# EAGLE library part DRV8847PWPR (library PDUv2)
None Check prices <https://pricing.snapeda.com/parts/DRV8847PWPR/Texas%20Instruments/view-part?ref=eda>
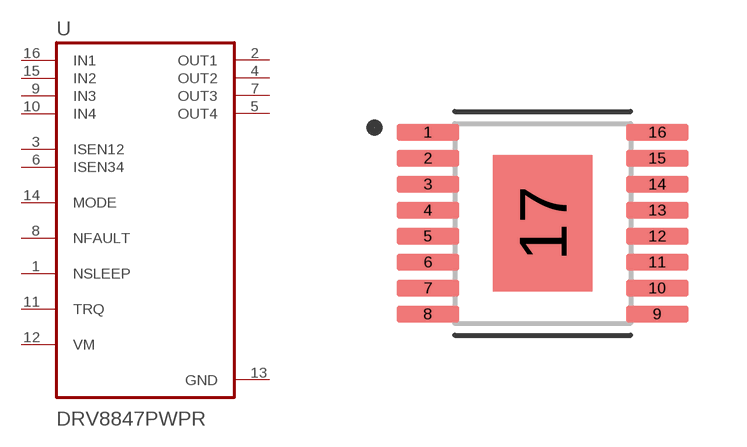
[diagram p3: symbol with the pads of SOP65P640X120-17N; footprint SOP65P640X120-17N]

Designator prefix U

## DRV8847PWPR (AVAILABILITY: Warning; DESCRIPTION: 18-V, 2-A dual H-bridge motor driver with current regulation & independent half-bridge control 16-HTSSOP -40 to 125; MF: Texas Instruments; MP: DRV8847PWPR; PACKAGE: HTSSOP-16 Texas Instruments; PRICE: None; PURCHASE-URL: https://pricing.snapeda.com/search/part/DRV8847PWPR/?ref=eda)  [SOP65P640X120-17N]
1  NSLEEP
2  OUT1  out
3  ISEN12
4  OUT2  out
5  OUT4  out
6  ISEN34
7  OUT3  out
8  NFAULT
9  IN3  in
10  IN4  in
11  TRQ
12  VM
13  GND  pwr
14  MODE
15  IN2  in
16  IN1  in

## Footprint SOP65P640X120-17N (pad centres in mm)
smd 1.57 x 0.41: 1 -2.87,2.275; 2 -2.87,1.625; 3 -2.87,0.975; 4 -2.87,0.325; 5 -2.87,-0.325; 6 -2.87,-0.975; 7 -2.87,-1.625; 8 -2.87,-2.275; 9 2.87,-2.275; 10 2.87,-1.625; 11 2.87,-0.975; 12 2.87,-0.325; 13 2.87,0.325; 14 2.87,0.975; 15 2.87,1.625; 16 2.87,2.275
smd 2.48 x 3.4: 17 0,0